# EAGLE library part AP6120*? (library AP6120x)
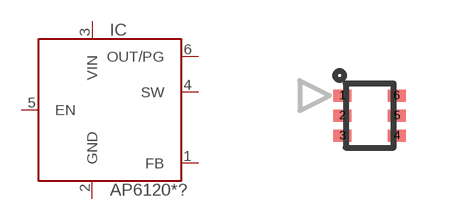
[diagram p0: symbol with the pads of SOT563; footprint SOT563]

Designator prefix IC

## AP61200Z6 (MARK: HM; MF: Diodes Incorporated; MPN: AP61200Z6-7), AP61201Z6 (MARK: GP; MF: Diodes Incorporated; MPN: AP61201Z6-7), AP61202Z6 (MARK: HN; MF: Diodes Incorporated; MPN: AP61202Z6-7), AP61203Z6 (MARK: GR; MF: Diodes Incorporated; MPN: AP61203Z6-7)  [SOT563]
1  FB  in
2  GND  pwr
3  VIN  pwr
4  SW  out
5  EN  in
6  OUT/PG

## Footprint SOT563 (pad centres in mm)
smd 0.45 x 0.3: 1 -0.68,0.5; 2 -0.68,0; 3 -0.68,-0.5; 4 0.68,-0.5; 5 0.68,0; 6 0.68,0.5